# Altium schematic symbol library 2021-06-09_13-53-51.SchLib: 2 symbols
Pins are listed as number, name and electrical type; pins without a type are passive.

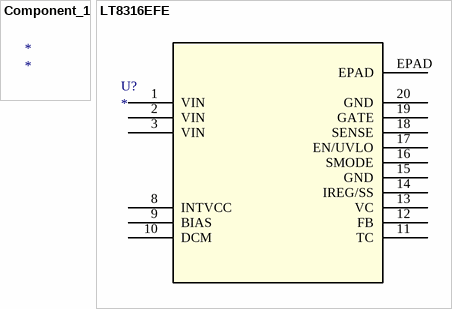
[diagram p0: symbols Component_1 to LT8316EFE]

## Component_1
designator *

## LT8316EFE
designator U?
No Description Available; Copyright: Copyright (C) 2021 Accelerated Designs. All rights reserved; RefDes: RefDes; Type: DEV
footprint TSSOP20_FE_BB(16)
pins: 1 VIN, 2 VIN, 3 VIN, 8 INTVCC, 9 BIAS, 10 DCM, 11 TC, 12 FB, 13 VC, 14 IREG/SS, 15 GND, 16 SMODE, 17 EN/UVLO, 18 SENSE, 19 GATE, 20 GND, EPAD